# Altium footprint library V_12.PcbLib: 3 footprints
Each footprint in its own frame and in the unit in brackets; x right, y up, seen from the top. Pads: shape width x height; smd on the part's side, far side on the other; paste and mask are expansions set on the pad; w line width, h text height; cw(c..) or ccw(c..) is an arc to the next point about the centre after c.
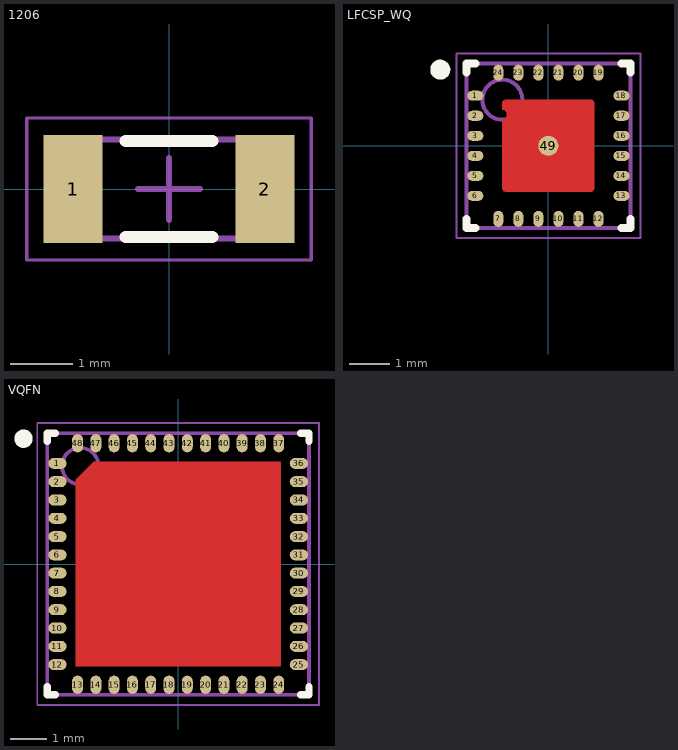
[diagram p0: the footprints below, top view; thin cyan lines are the x and y axes]

## 1206 [mm] "Chip Capacitor, 2-Leads, Body 3,20x1,60mm, IPC Medium Density"
height 0.55
pads (2):
  rect 0.95x1.75 smd: 1(-1.55,0) 2(1.55,0)
Top Overlay:
  lines w0.2: -0.7,-0.775 0.7,-0.775 ; -0.7,0.775 0.7,0.775
Mechanical 13:
  lines w0.1: -1.6,-0.8 1.6,-0.8 1.6,0.8 -1.6,0.8 -1.6,-0.8
Mechanical 15:
  lines w0.05: -2.3,-1.15 2.3,-1.15 2.3,1.15 -2.3,1.15 -2.3,-1.15
  lines w0.1: -0.5,0 0.5,0 ; 0,-0.5 0,0.5
3D body: height 0.55, standoff 0, extent 1.15,-0.8 1.6,0.8
3D body: height 0.55, standoff 0, extent -1.6,-0.8 -1.15,0.8
3D body: height 0.55, standoff 0, extent -1.15,-0.8 1.15,0.8

## LFCSP_WQ [mm] "PQFN, 24-Leads, Body 4,00x4,00mm, Pitch 0,50mm, Thermal Pad 2,55x2,55mm, IPC Medium Density"
height 0.75
pads (25):
  oval 0.4x0.25 smd: 1(-1.825,1.25) 2(-1.825,0.75) 3(-1.825,0.25) 4(-1.825,-0.25) 5(-1.825,-0.75) 6(-1.825,-1.25) 13(1.825,-1.25) 14(1.825,-0.75) 15(1.825,-0.25) 16(1.825,0.25) 17(1.825,0.75) 18(1.825,1.25)
  oval 0.25x0.4 smd: 7(-1.25,-1.825) 8(-0.75,-1.825) 9(-0.25,-1.825) 10(0.25,-1.825) 11(0.75,-1.825) 12(1.25,-1.825) 19(1.25,1.825) 20(0.75,1.825) 21(0.25,1.825) 22(-0.25,1.825) 23(-0.75,1.825) 24(-1.25,1.825)
  round 0.5 smd: 49(0,0)
Top Layer:
  region: -1.154,-1.045 -1.154,0.655 -1.106,0.665 -1.039,0.732 -1.039,0.828 -1.106,0.895 -1.154,0.905 -1.154,1.055 -1.154,1.075 -1.139,1.112 -1.111,1.14 -1.074,1.155 -1.054,1.155 1.046,1.155 1.066,1.155 1.103,1.14 1.131,1.112 1.146,1.075 1.146,1.055 1.146,-1.045 1.146,-1.065 1.131,-1.102 1.103,-1.13 1.066,-1.145 1.046,-1.145 -1.054,-1.145 -1.074,-1.145 -1.111,-1.13 -1.139,-1.102 -1.154,-1.065
  pour cut-out: -1.524,-4.826
  pour cut-out: -0.508,-4.572
  pour cut-out: -3.81,0.889
  region: -4.318,2.667
Top Overlay:
  circle w0.25: c-2.7,1.9 r0.125
  lines w0.2: -2.05,-1.825 -2.05,-2.05 -1.825,-2.05 ; -2.05,1.825 -2.05,2.05 -1.825,2.05 ; 1.825,-2.05 2.05,-2.05 2.05,-1.825 ; 1.825,2.05 2.05,2.05 2.05,1.825
Mechanical 13:
  circle w0.1: c-1.15,1.15 r0.5
  lines w0.1: -2.05,-2.05 2.05,-2.05 2.05,2.05 -2.05,2.05 -2.05,-2.05
Mechanical 15:
  lines w0.05: -2.3,-2.3 2.3,-2.3 2.3,2.3 -2.3,2.3 -2.3,-2.3
  lines w0.1: -0.5,0 0.5,0 ; 0,-0.5 0,0.5
3D body: height 0.75, standoff 0.02, extent -2.05,-2.05 2.05,2.05

## VQFN [mm] "PQFN, 48-Leads, Body 7,00x7,00mm, Pitch 0,55mm, Thermal Pad 5,60x5,60mm, IPC Medium Density"
height 1
pads (48):
  oval 0.5x0.3 smd: 1(-3.3,2.75) 2(-3.3,2.25) 3(-3.3,1.75) 4(-3.3,1.25) 5(-3.3,0.75) 6(-3.3,0.25) 7(-3.3,-0.25) 8(-3.3,-0.75) 9(-3.3,-1.25) 10(-3.3,-1.75) 11(-3.3,-2.25) 12(-3.3,-2.75) 25(3.3,-2.75) 26(3.3,-2.25) 27(3.3,-1.75) 28(3.3,-1.25) 29(3.3,-0.75) 30(3.3,-0.25) 31(3.3,0.25) 32(3.3,0.75) 33(3.3,1.25) 34(3.3,1.75) 35(3.3,2.25) 36(3.3,2.75)
  oval 0.3x0.5 smd: 13(-2.75,-3.3) 14(-2.25,-3.3) 15(-1.75,-3.3) 16(-1.25,-3.3) 17(-0.75,-3.3) 18(-0.25,-3.3) 19(0.25,-3.3) 20(0.75,-3.3) 21(1.25,-3.3) 22(1.75,-3.3) 23(2.25,-3.3) 24(2.75,-3.3) 37(2.75,3.3) 38(2.25,3.3) 39(1.75,3.3) 40(1.25,3.3) 41(0.75,3.3) 42(0.25,3.3) 43(-0.25,3.3) 44(-0.75,3.3) 45(-1.25,3.3) 46(-1.75,3.3) 47(-2.25,3.3) 48(-2.75,3.3)
Top Layer:
  region: -2.796,-2.805 -2.801,2.3 -2.304,2.799 2.804,2.801 2.81,-2.8
Top Overlay:
  circle w0.25: c-4.225,3.425 r0.125
  lines w0.2: -3.575,-3.35 -3.575,-3.575 -3.35,-3.575 ; -3.575,3.35 -3.575,3.575 -3.35,3.575 ; 3.35,-3.575 3.575,-3.575 3.575,-3.35 ; 3.35,3.575 3.575,3.575 3.575,3.35
Mechanical 13:
  circle w0.1: c-2.675,2.675 r0.5
  lines w0.1: -3.575,-3.575 3.575,-3.575 3.575,3.575 -3.575,3.575 -3.575,-3.575
Mechanical 15:
  lines w0.05: -3.85,-3.85 3.85,-3.85 3.85,3.85 -3.85,3.85 -3.85,-3.85
  lines w0.1: -0.5,0 0.5,0 ; 0,-0.5 0,0.5
3D body: height 1, standoff 0.02, extent -3.575,-3.575 3.575,3.575